# Altium integrated library Analog Devices Data Converters Digital-to-Analog Converters.IntLib: 2231 symbols (part 159 of 181)
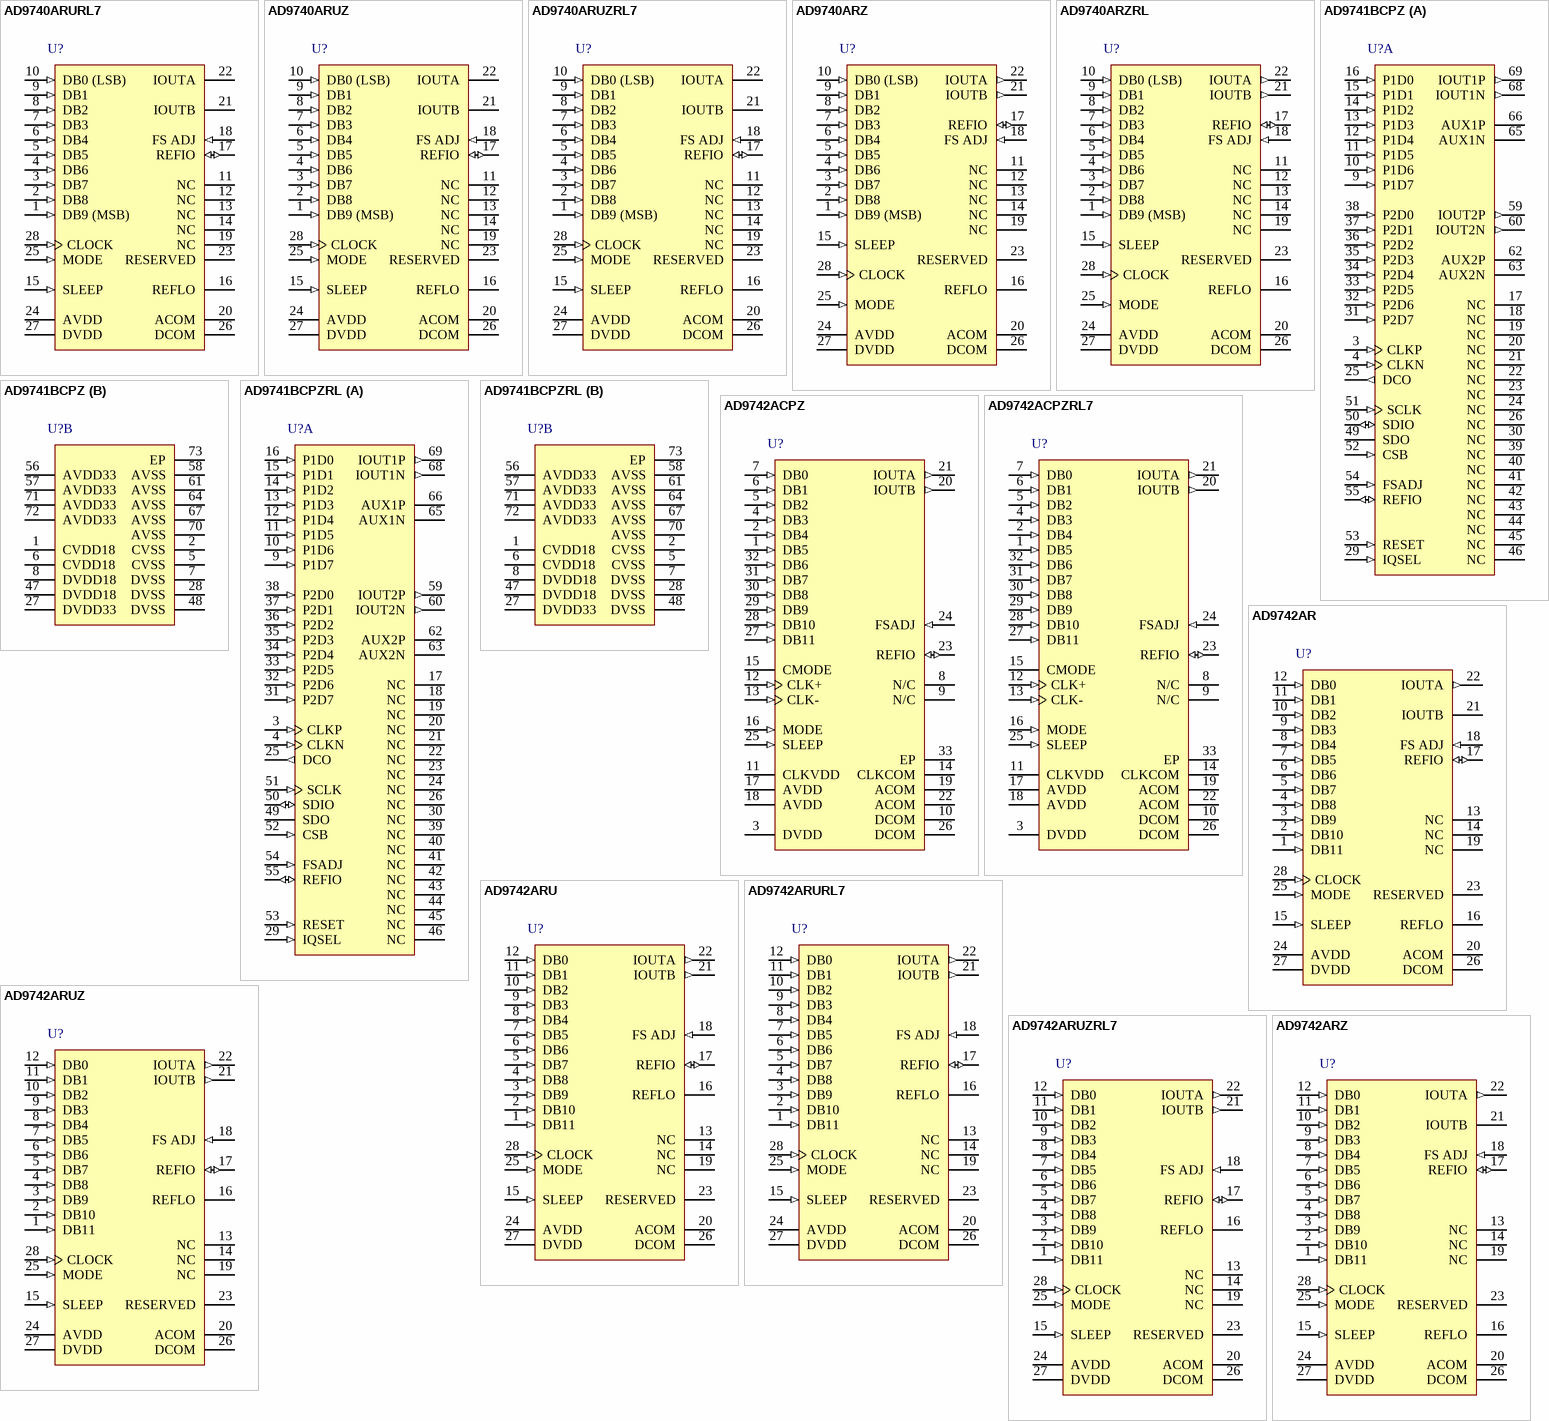
[diagram p272: symbols AD9740ARURL7 to AD9742ARZ]

## AD9742AR
designator U?
Single 12-Bit TxDAC, 210 Msps, -40 to +85 degC, RW-28, Tube; Generic Part Number: AD9742; Manufacturer: Analog Devices; PartNumber: AD9742AR; # DAC Outputs: 1; Max V+: 3.6V; Op Pwr Diss: 145mW; Resolution (Bits): 12; Settling Time: 11ns; Single Supply: No; DatasheetVersion: Rev.B; PackageVersion: 060706-A; PackageReference: RW-28; PackageDescription: 28-Lead Standard Small Outline Package [SOIC_W]; Supplier 1: Digi-Key; Supplier Part Number 1: AD9742AR-ND; Supplier 2: Mouser; Supplier Part Number 2: 584-AD9742AR; Packing: Tube; RoHS: N; Mounting Technology: Surface Mount; Code_JEDEC: MS-013-AE; ComponentLink1Description: Manufacturer URL; ComponentLink1URL: http://www.analog.com/en/index.html; ComponentLink2Description: Datasheet; ComponentLink2URL: http://www.analog.com/static/imported-files/data_sheets/AD9742.pdf; ComponentLink3Description: Product URL; ComponentLink3URL: http://www.analog.com/en/digital-to-analog-converters/da-converters/ad9742/products/product.html
footprint RW-28_N (SOIC, 28-Leads, Body 17.9x7.5mm, Pitch 1.27mm, IPC Medium Density)
footprint RW-28_L (SOIC, 28-Leads, Body 17.9x7.5mm, Pitch 1.27mm, IPC High Density)
footprint RW-28_M (SOIC, 28-Leads, Body 17.9x7.5mm, Pitch 1.27mm, IPC Low Density)
pins: 1 DB11 (in) "Most Significant Data Bit (MSB).", 2 DB10 (in) "Data Bit 10", 3 DB9 (in) "Data Bit 9", 4 DB8 (in) "Data Bit 8", 5 DB7 (in) "Data Bit 7", 6 DB6 (in) "Data Bit 6", 7 DB5 (in) "Data Bit 5", 8 DB4 (in) "Data Bit 4", 9 DB3 (in) "Data Bit 3", 10 DB2 (in) "Data Bit 2", 11 DB1 (in) "Data Bit 1", 12 DB0 (in) "Least Significant Data Bit (LSB).", 13 NC "No Internal Connection.", 14 NC "No Internal Connection.", 15 SLEEP (in) "Power-Down Control Input. Active high. Contains active pull-down circuit; it may be left unterminated if not used.", 16 REFLO "Reference Ground when Internal 1.2 V Reference Used. Connect to AVDD to disable internal reference.", 17 REFIO (io) "Reference Input/Output. Serves as reference input when internal reference disabled (i.e., tie REFLO to AVDD). Serves as 1.2 V reference output when internal reference activated (i.e., tie REFLO to ACOM). Requires 0.1 uF (See Datasheet)", 18 FS ADJ (in) "Full-Scale Current Output Adjust.", 19 NC "No Internal Connection.", 20 ACOM (power) "Analog Common.", 21 IOUTB "Complementary DAC Current Output. Full-scale current when all data bits are 0s.", 22 IOUTA (out) "DAC Current Output. Full-scale current when all data bits are 1s.", 23 RESERVED "Reserved. Do not connect to common or supply.", 24 AVDD (power) "Analog Supply Voltage (3.3 V).", 25 MODE (in) "Selects Input Data Format. Connect to DCOM for straight binary, DVDD for twos complement.", 26 DCOM (power) "Digital Common.", 27 DVDD (power) "Digital Supply Voltage (3.3 V).", 28 CLOCK (in) "Clock Input. Data latched on positive edge of clock."

## AD9742ARU
designator U?
Single 12-Bit TxDAC, 210 Msps, -40 to +85 degC, RU-28, Tube; Generic Part Number: AD9742; Manufacturer: Analog Devices; PartNumber: AD9742ARU; # DAC Outputs: 1; Max V+: 3.6V; Op Pwr Diss: 145mW; Resolution (Bits): 12; Settling Time: 11ns; Single Supply: NO; DatasheetVersion: Rev.B; PackageVersion: 2005; PackageReference: RU-28; PackageDescription: 28-Lead Thin Shrink Small Outline Package [TSSOP]; Supplier 1: Digi-Key; Supplier Part Number 1: AD9742ARU-ND; Supplier 2: Mouser; Supplier Part Number 2: 584-AD9742ARU; Packing: Tube; RoHS: N; Mounting Technology: Surface Mount; Code_JEDEC: MO-153-AE; ComponentLink1Description: Manufacturer URL; ComponentLink1URL: http://www.analog.com/en/index.html; ComponentLink2Description: Datasheet; ComponentLink2URL: http://www.analog.com/static/imported-files/data_sheets/AD9742.pdf; ComponentLink3Description: Package Specification; ComponentLink3URL: http://www.analog.com/static/imported-files/packages/249854663RU_28.pdf; ComponentLink4Description: Product URL; ComponentLink4URL: http://www.analog.com/en/digital-to-analog-converters/da-converters/ad9742/products/product.html
footprint RU-28_N (TSOP, 28-Leads, Body 9.7x4.4mm, Pitch 0.65mm, IPC Medium Density)
footprint RU-28_L (TSOP, 28-Leads, Body 9.7x4.4mm, Pitch 0.65mm, IPC High Density)
footprint RU-28_M (TSOP, 28-Leads, Body 9.7x4.4mm, Pitch 0.65mm, IPC Low Density)
pins: 1 DB11 (in) "Most Significant Data Bit (MSB).", 2 DB10 (in) "Data Bit 10", 3 DB9 (in) "Data Bit 9", 4 DB8 (in) "Data Bit 8", 5 DB7 (in) "Data Bit 7", 6 DB6 (in) "Data Bit 6", 7 DB5 (in) "Data Bit 5", 8 DB4 (in) "Data Bit 4", 9 DB3 (in) "Data Bit 3", 10 DB2 (in) "Data Bit 2", 11 DB1 (in) "Data Bit 1", 12 DB0 (in) "Least Significant Data Bit (LSB).", 13 NC "No Internal Connection.", 14 NC "No Internal Connection.", 15 SLEEP (in) "Power-Down Control Input. Active high. Contains active pull-down circuit; it may be left unterminated if not used.", 16 REFLO "Reference Ground when Internal 1.2 V Reference Used. Connect to AVDD to disable internal reference.", 17 REFIO (io) "Reference Input/Output. Serves as reference input when internal reference disabled (i.e., tie REFLO to AVDD). Serves as 1.2 V reference output when internal reference activated (i.e., tie REFLO to ACOM). Requires 0.1 uF (See Datasheet)", 18 FS ADJ (in) "Full-Scale Current Output Adjust.", 19 NC "No Internal Connection.", 20 ACOM (power) "Analog Common.", 21 IOUTB (out) "Complementary DAC Current Output. Full-scale current when all data bits are 0s.", 22 IOUTA (out) "DAC Current Output. Full-scale current when all data bits are 1s.", 23 RESERVED "Reserved. Do not connect to common or supply.", 24 AVDD (power) "Analog Supply Voltage (3.3 V).", 25 MODE (in) "Selects Input Data Format. Connect to DCOM for straight binary, DVDD for twos complement.", 26 DCOM (power) "Digital Common.", 27 DVDD (power) "Digital Supply Voltage (3.3 V).", 28 CLOCK (in) "Clock Input. Data latched on positive edge of clock."

## AD9742ARURL7
designator U?
Single 12-Bit TxDAC, 210 Msps, -40 to +85 degC, RU-28, Reel; Generic Part Number: AD9742; Manufacturer: Analog Devices; PartNumber: AD9742ARURL7; # DAC Outputs: 1; Max V+: 3.6V; Op Pwr Diss: 145mW; Resolution (Bits): 12; Settling Time: 11ns; Single Supply: NO; DatasheetVersion: Rev.B; PackageVersion: 2005; PackageReference: RU-28; PackageDescription: 28-Lead Thin Shrink Small Outline Package [TSSOP]; Supplier 1: Digi-Key; Supplier Part Number 1: AD9742ARURL7-ND; Supplier 2: Mouser; Supplier Part Number 2: 584-AD9742ARUR7; Packing: Reel; RoHS: N; Mounting Technology: Surface Mount; Code_JEDEC: MO-153-AE; ComponentLink1Description: Manufacturer URL; ComponentLink1URL: http://www.analog.com/en/index.html; ComponentLink2Description: Datasheet; ComponentLink2URL: http://www.analog.com/static/imported-files/data_sheets/AD9742.pdf; ComponentLink3Description: Package Specification; ComponentLink3URL: http://www.analog.com/static/imported-files/packages/249854663RU_28.pdf; ComponentLink4Description: Product URL; ComponentLink4URL: http://www.analog.com/en/digital-to-analog-converters/da-converters/ad9742/products/product.html
footprint RU-28_N (TSOP, 28-Leads, Body 9.7x4.4mm, Pitch 0.65mm, IPC Medium Density)
footprint RU-28_L (TSOP, 28-Leads, Body 9.7x4.4mm, Pitch 0.65mm, IPC High Density)
footprint RU-28_M (TSOP, 28-Leads, Body 9.7x4.4mm, Pitch 0.65mm, IPC Low Density)
pins: 1 DB11 (in) "Most Significant Data Bit (MSB).", 2 DB10 (in) "Data Bit 10", 3 DB9 (in) "Data Bit 9", 4 DB8 (in) "Data Bit 8", 5 DB7 (in) "Data Bit 7", 6 DB6 (in) "Data Bit 6", 7 DB5 (in) "Data Bit 5", 8 DB4 (in) "Data Bit 4", 9 DB3 (in) "Data Bit 3", 10 DB2 (in) "Data Bit 2", 11 DB1 (in) "Data Bit 1", 12 DB0 (in) "Least Significant Data Bit (LSB).", 13 NC "No Internal Connection.", 14 NC "No Internal Connection.", 15 SLEEP (in) "Power-Down Control Input. Active high. Contains active pull-down circuit; it may be left unterminated if not used.", 16 REFLO "Reference Ground when Internal 1.2 V Reference Used. Connect to AVDD to disable internal reference.", 17 REFIO (io) "Reference Input/Output. Serves as reference input when internal reference disabled (i.e., tie REFLO to AVDD). Serves as 1.2 V reference output when internal reference activated (i.e., tie REFLO to ACOM). Requires 0.1 uF (See Datasheet)", 18 FS ADJ (in) "Full-Scale Current Output Adjust.", 19 NC "No Internal Connection.", 20 ACOM (power) "Analog Common.", 21 IOUTB (out) "Complementary DAC Current Output. Full-scale current when all data bits are 0s.", 22 IOUTA (out) "DAC Current Output. Full-scale current when all data bits are 1s.", 23 RESERVED "Reserved. Do not connect to common or supply.", 24 AVDD (power) "Analog Supply Voltage (3.3 V).", 25 MODE (in) "Selects Input Data Format. Connect to DCOM for straight binary, DVDD for twos complement.", 26 DCOM (power) "Digital Common.", 27 DVDD (power) "Digital Supply Voltage (3.3 V).", 28 CLOCK (in) "Clock Input. Data latched on positive edge of clock."

## AD9742ARUZ
designator U?
Single 12-Bit TxDAC, 210 Msps, -40 to +85 degC, RU-28, Pb-Free, Tube; Generic Part Number: AD9742; Manufacturer: Analog Devices; PartNumber: AD9742ARUZ; # DAC Outputs: 1; Max V+: 3.6V; Op Pwr Diss: 145mW; Resolution (Bits): 12; Settling Time: 11ns; Single Supply: NO; DatasheetVersion: Rev.B; PackageVersion: 2005; PackageReference: RU-28; PackageDescription: 28-Lead Thin Shrink Small Outline Package [TSSOP]; Supplier 1: Digi-Key; Supplier Part Number 1: AD9742ARUZ-ND; Supplier 2: Farnell; Supplier Part Number 2: 2305699; Supplier 3: Newark; Supplier Part Number 3: 59K7343; Supplier 4: Mouser; Supplier Part Number 4: 584-AD9742ARUZ; Packing: Tube; RoHS: Y; Mounting Technology: Surface Mount; Code_JEDEC: MO-153-AE; ComponentLink1Description: Manufacturer URL; ComponentLink1URL: http://www.analog.com/en/index.html; ComponentLink2Description: Datasheet; ComponentLink2URL: http://www.analog.com/static/imported-files/data_sheets/AD9742.pdf; ComponentLink3Description: Package Specification; ComponentLink3URL: http://www.analog.com/static/imported-files/packages/249854663RU_28.pdf; ComponentLink4Description: Product URL; ComponentLink4URL: http://www.analog.com/en/digital-to-analog-converters/da-converters/ad9742/products/product.html
footprint RU-28_N (TSOP, 28-Leads, Body 9.7x4.4mm, Pitch 0.65mm, IPC Medium Density)
footprint RU-28_L (TSOP, 28-Leads, Body 9.7x4.4mm, Pitch 0.65mm, IPC High Density)
footprint RU-28_M (TSOP, 28-Leads, Body 9.7x4.4mm, Pitch 0.65mm, IPC Low Density)
pins: 1 DB11 (in) "Most Significant Data Bit (MSB).", 2 DB10 (in) "Data Bit 10", 3 DB9 (in) "Data Bit 9", 4 DB8 (in) "Data Bit 8", 5 DB7 (in) "Data Bit 7", 6 DB6 (in) "Data Bit 6", 7 DB5 (in) "Data Bit 5", 8 DB4 (in) "Data Bit 4", 9 DB3 (in) "Data Bit 3", 10 DB2 (in) "Data Bit 2", 11 DB1 (in) "Data Bit 1", 12 DB0 (in) "Least Significant Data Bit (LSB).", 13 NC "No Internal Connection.", 14 NC "No Internal Connection.", 15 SLEEP (in) "Power-Down Control Input. Active high. Contains active pull-down circuit; it may be left unterminated if not used.", 16 REFLO "Reference Ground when Internal 1.2 V Reference Used. Connect to AVDD to disable internal reference.", 17 REFIO (io) "Reference Input/Output. Serves as reference input when internal reference disabled (i.e., tie REFLO to AVDD). Serves as 1.2 V reference output when internal reference activated (i.e., tie REFLO to ACOM). Requires 0.1 uF (See Datasheet)", 18 FS ADJ (in) "Full-Scale Current Output Adjust.", 19 NC "No Internal Connection.", 20 ACOM (power) "Analog Common.", 21 IOUTB (out) "Complementary DAC Current Output. Full-scale current when all data bits are 0s.", 22 IOUTA (out) "DAC Current Output. Full-scale current when all data bits are 1s.", 23 RESERVED "Reserved. Do not connect to common or supply.", 24 AVDD (power) "Analog Supply Voltage (3.3 V).", 25 MODE (in) "Selects Input Data Format. Connect to DCOM for straight binary, DVDD for twos complement.", 26 DCOM (power) "Digital Common.", 27 DVDD (power) "Digital Supply Voltage (3.3 V).", 28 CLOCK (in) "Clock Input. Data latched on positive edge of clock."

## AD9742ARUZRL7
designator U?
Single 12-Bit TxDAC, 210 Msps, -40 to +85 degC, RU-28, Pb-Free, Reel; Generic Part Number: AD9742; Manufacturer: Analog Devices; PartNumber: AD9742ARUZRL7; # DAC Outputs: 1; Max V+: 3.6V; Op Pwr Diss: 145mW; Resolution (Bits): 12; Settling Time: 11ns; Single Supply: NO; DatasheetVersion: Rev.B; PackageVersion: 2005; PackageReference: RU-28; PackageDescription: 28-Lead Thin Shrink Small Outline Package [TSSOP]; Supplier 1: Digi-Key; Supplier Part Number 1: AD9742ARUZRL7-ND; Supplier 2: Mouser; Supplier Part Number 2: 584-AD9742ARUZR7; Packing: Reel; RoHS: Y; Mounting Technology: Surface Mount; Code_JEDEC: MO-153-AE; ComponentLink1Description: Manufacturer URL; ComponentLink1URL: http://www.analog.com/en/index.html; ComponentLink2Description: Datasheet; ComponentLink2URL: http://www.analog.com/static/imported-files/data_sheets/AD9742.pdf; ComponentLink3Description: Package Specification; ComponentLink3URL: http://www.analog.com/static/imported-files/packages/249854663RU_28.pdf; ComponentLink4Description: Product URL; ComponentLink4URL: http://www.analog.com/en/digital-to-analog-converters/da-converters/ad9742/products/product.html
footprint RU-28_N (TSOP, 28-Leads, Body 9.7x4.4mm, Pitch 0.65mm, IPC Medium Density)
footprint RU-28_L (TSOP, 28-Leads, Body 9.7x4.4mm, Pitch 0.65mm, IPC High Density)
footprint RU-28_M (TSOP, 28-Leads, Body 9.7x4.4mm, Pitch 0.65mm, IPC Low Density)
pins: 1 DB11 (in) "Most Significant Data Bit (MSB).", 2 DB10 (in) "Data Bit 10", 3 DB9 (in) "Data Bit 9", 4 DB8 (in) "Data Bit 8", 5 DB7 (in) "Data Bit 7", 6 DB6 (in) "Data Bit 6", 7 DB5 (in) "Data Bit 5", 8 DB4 (in) "Data Bit 4", 9 DB3 (in) "Data Bit 3", 10 DB2 (in) "Data Bit 2", 11 DB1 (in) "Data Bit 1", 12 DB0 (in) "Least Significant Data Bit (LSB).", 13 NC "No Internal Connection.", 14 NC "No Internal Connection.", 15 SLEEP (in) "Power-Down Control Input. Active high. Contains active pull-down circuit; it may be left unterminated if not used.", 16 REFLO "Reference Ground when Internal 1.2 V Reference Used. Connect to AVDD to disable internal reference.", 17 REFIO (io) "Reference Input/Output. Serves as reference input when internal reference disabled (i.e., tie REFLO to AVDD). Serves as 1.2 V reference output when internal reference activated (i.e., tie REFLO to ACOM). Requires 0.1 uF (See Datasheet)", 18 FS ADJ (in) "Full-Scale Current Output Adjust.", 19 NC "No Internal Connection.", 20 ACOM (power) "Analog Common.", 21 IOUTB (out) "Complementary DAC Current Output. Full-scale current when all data bits are 0s.", 22 IOUTA (out) "DAC Current Output. Full-scale current when all data bits are 1s.", 23 RESERVED "Reserved. Do not connect to common or supply.", 24 AVDD (power) "Analog Supply Voltage (3.3 V).", 25 MODE (in) "Selects Input Data Format. Connect to DCOM for straight binary, DVDD for twos complement.", 26 DCOM (power) "Digital Common.", 27 DVDD (power) "Digital Supply Voltage (3.3 V).", 28 CLOCK (in) "Clock Input. Data latched on positive edge of clock."

## AD9742ARZ
designator U?
Single 12-Bit TxDAC, 210 Msps, -40 to +85 degC, RW-28, Pb-Free, Tube; Generic Part Number: AD9742; Manufacturer: Analog Devices; PartNumber: AD9742ARZ; # DAC Outputs: 1; Max V+: 3.6V; Op Pwr Diss: 145mW; Resolution (Bits): 12; Settling Time: 11ns; Single Supply: NO; DatasheetVersion: Rev.B; PackageVersion: 060706-A; PackageReference: RW-28; PackageDescription: 28-Lead Standard Small Outline Package [SOIC_W]; Supplier 1: Digi-Key; Supplier Part Number 1: AD9742ARZ-ND; Supplier 2: Mouser; Supplier Part Number 2: 584-AD9742ARZ; Packing: Tube; RoHS: Y; Mounting Technology: Surface Mount; Code_JEDEC: MS-013-AE; ComponentLink1Description: Manufacturer URL; ComponentLink1URL: http://www.analog.com/en/index.html; ComponentLink2Description: Datasheet; ComponentLink2URL: http://www.analog.com/static/imported-files/data_sheets/AD9742.pdf; ComponentLink3Description: Product URL; ComponentLink3URL: http://www.analog.com/en/digital-to-analog-converters/da-converters/ad9742/products/product.html
footprint RW-28_N (SOIC, 28-Leads, Body 17.9x7.5mm, Pitch 1.27mm, IPC Medium Density)
footprint RW-28_L (SOIC, 28-Leads, Body 17.9x7.5mm, Pitch 1.27mm, IPC High Density)
footprint RW-28_M (SOIC, 28-Leads, Body 17.9x7.5mm, Pitch 1.27mm, IPC Low Density)
pins: 1 DB11 (in) "Most Significant Data Bit (MSB).", 2 DB10 (in) "Data Bit 10", 3 DB9 (in) "Data Bit 9", 4 DB8 (in) "Data Bit 8", 5 DB7 (in) "Data Bit 7", 6 DB6 (in) "Data Bit 6", 7 DB5 (in) "Data Bit 5", 8 DB4 (in) "Data Bit 4", 9 DB3 (in) "Data Bit 3", 10 DB2 (in) "Data Bit 2", 11 DB1 (in) "Data Bit 1", 12 DB0 (in) "Least Significant Data Bit (LSB).", 13 NC "No Internal Connection.", 14 NC "No Internal Connection.", 15 SLEEP (in) "Power-Down Control Input. Active high. Contains active pull-down circuit; it may be left unterminated if not used.", 16 REFLO "Reference Ground when Internal 1.2 V Reference Used. Connect to AVDD to disable internal reference.", 17 REFIO (io) "Reference Input/Output. Serves as reference input when internal reference disabled (i.e., tie REFLO to AVDD). Serves as 1.2 V reference output when internal reference activated (i.e., tie REFLO to ACOM). Requires 0.1 uF (See Datasheet)", 18 FS ADJ (in) "Full-Scale Current Output Adjust.", 19 NC "No Internal Connection.", 20 ACOM (power) "Analog Common.", 21 IOUTB "Complementary DAC Current Output. Full-scale current when all data bits are 0s.", 22 IOUTA (out) "DAC Current Output. Full-scale current when all data bits are 1s.", 23 RESERVED "Reserved. Do not connect to common or supply.", 24 AVDD (power) "Analog Supply Voltage (3.3 V).", 25 MODE (in) "Selects Input Data Format. Connect to DCOM for straight binary, DVDD for twos complement.", 26 DCOM (power) "Digital Common.", 27 DVDD (power) "Digital Supply Voltage (3.3 V).", 28 CLOCK (in) "Clock Input. Data latched on positive edge of clock."

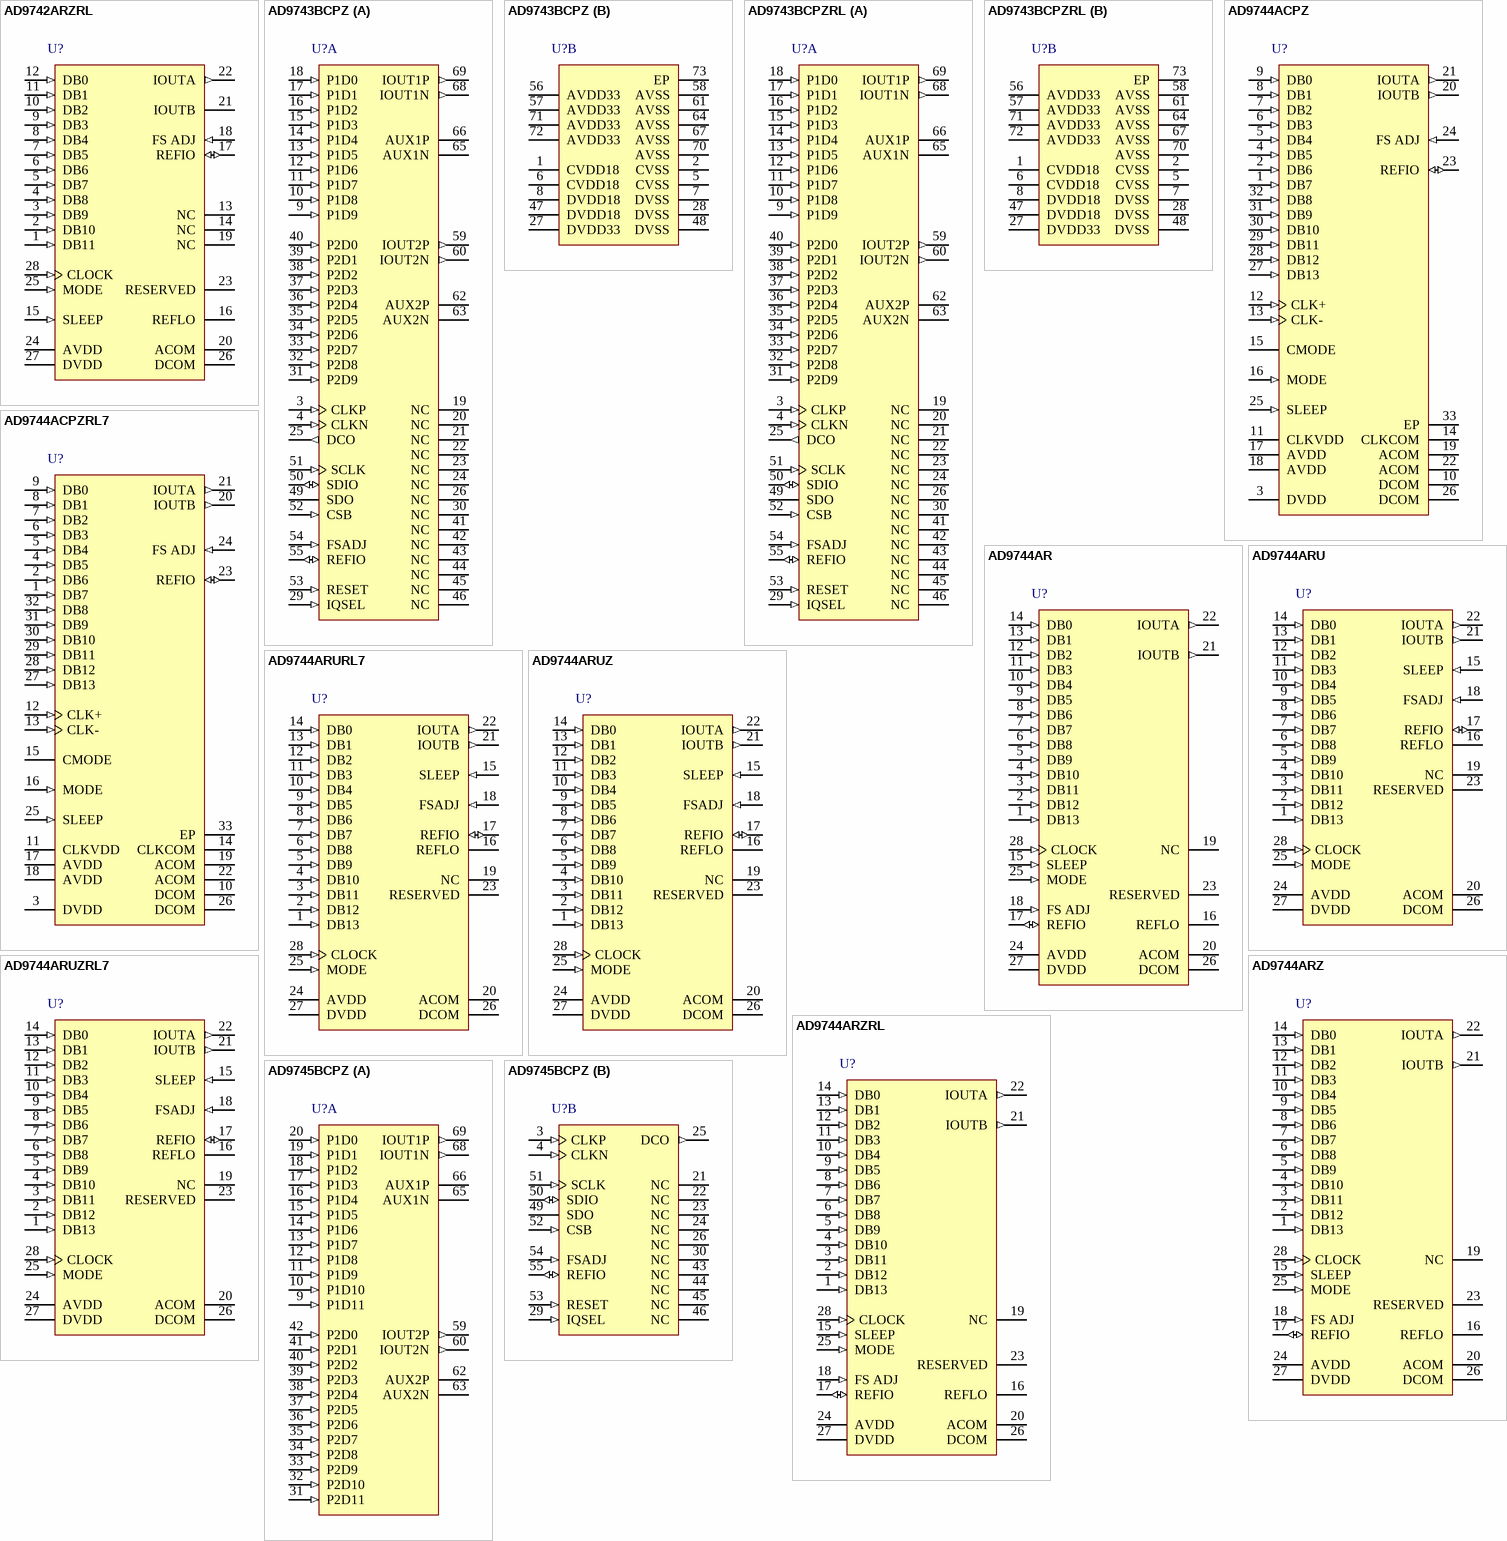
[diagram p95: symbols AD9742ARZRL to AD9745BCPZ]

## AD9742ARZRL
designator U?
Single 12-Bit TxDAC, 210 Msps, -40 to +85 degC, RW-28, Pb-Free, Reel; Generic Part Number: AD9742; Manufacturer: Analog Devices; PartNumber: AD9742ARZRL; # DAC Outputs: 1; Max V+: 3.6V; Op Pwr Diss: 145mW; Resolution (Bits): 12; Settling Time: 11ns; Single Supply: NO; DatasheetVersion: Rev.B; PackageVersion: 060706-A; PackageReference: RW-28; PackageDescription: 28-Lead Standard Small Outline Package [SOIC_W]; Supplier 1: Digi-Key; Supplier Part Number 1: AD9742ARZRL-ND; Supplier 2: Mouser; Supplier Part Number 2: 584-AD9742ARZR; Packing: Reel; RoHS: Y; Mounting Technology: Surface Mount; Code_JEDEC: MS-013-AE; ComponentLink1Description: Manufacturer URL; ComponentLink1URL: http://www.analog.com/en/index.html; ComponentLink2Description: Datasheet; ComponentLink2URL: http://www.analog.com/static/imported-files/data_sheets/AD9742.pdf; ComponentLink3Description: Product URL; ComponentLink3URL: http://www.analog.com/en/digital-to-analog-converters/da-converters/ad9742/products/product.html
footprint RW-28_N (SOIC, 28-Leads, Body 17.9x7.5mm, Pitch 1.27mm, IPC Medium Density)
footprint RW-28_L (SOIC, 28-Leads, Body 17.9x7.5mm, Pitch 1.27mm, IPC High Density)
footprint RW-28_M (SOIC, 28-Leads, Body 17.9x7.5mm, Pitch 1.27mm, IPC Low Density)
pins: 1 DB11 (in) "Most Significant Data Bit (MSB).", 2 DB10 (in) "Data Bit 10", 3 DB9 (in) "Data Bit 9", 4 DB8 (in) "Data Bit 8", 5 DB7 (in) "Data Bit 7", 6 DB6 (in) "Data Bit 6", 7 DB5 (in) "Data Bit 5", 8 DB4 (in) "Data Bit 4", 9 DB3 (in) "Data Bit 3", 10 DB2 (in) "Data Bit 2", 11 DB1 (in) "Data Bit 1", 12 DB0 (in) "Least Significant Data Bit (LSB).", 13 NC "No Internal Connection.", 14 NC "No Internal Connection.", 15 SLEEP (in) "Power-Down Control Input. Active high. Contains active pull-down circuit; it may be left unterminated if not used.", 16 REFLO "Reference Ground when Internal 1.2 V Reference Used. Connect to AVDD to disable internal reference.", 17 REFIO (io) "Reference Input/Output. Serves as reference input when internal reference disabled (i.e., tie REFLO to AVDD). Serves as 1.2 V reference output when internal reference activated (i.e., tie REFLO to ACOM). Requires 0.1 uF (See Datasheet)", 18 FS ADJ (in) "Full-Scale Current Output Adjust.", 19 NC "No Internal Connection.", 20 ACOM (power) "Analog Common.", 21 IOUTB "Complementary DAC Current Output. Full-scale current when all data bits are 0s.", 22 IOUTA (out) "DAC Current Output. Full-scale current when all data bits are 1s.", 23 RESERVED "Reserved. Do not connect to common or supply.", 24 AVDD (power) "Analog Supply Voltage (3.3 V).", 25 MODE (in) "Selects Input Data Format. Connect to DCOM for straight binary, DVDD for twos complement.", 26 DCOM (power) "Digital Common.", 27 DVDD (power) "Digital Supply Voltage (3.3 V).", 28 CLOCK (in) "Clock Input. Data latched on positive edge of clock."

## AD9743BCPZ
designator U?
Dual 10-Bit Digital-to-Analog Converter, 250 Msps, -40 to +85 degC, CP-72-1, Pb-Free, Tray; Generic Part Number: AD9743; Manufacturer: Analog Devices; PartNumber: AD9743BCPZ; # DAC Outputs: 2; Max V+: 3.47V; Op Pwr Diss: 345mW; Resolution (Bits): 10; Single Supply: No; DatasheetVersion: Rev.0; PackageVersion: 06-07-2012-A; PackageReference: CP-72-1; PackageDescription: 72-Lead Lead Frame Chip Scale Package [LFCSP_VQ] 10 x 10 mm Body, Very Thin Quad; Supplier 1: Digi-Key; Supplier Part Number 1: AD9743BCPZ-ND; Supplier 2: Farnell; Supplier Part Number 2: 1438932; Supplier 3: Mouser; Supplier Part Number 3: 584-AD9743BCPZ; Packing: Tray; RoHS: Y; Mounting Technology: Surface Mount; Code_JEDEC: MO-220-VNND-4; ComponentLink1Description: Manufacturer URL; ComponentLink1URL: http://www.analog.com/en/index.html; ComponentLink2Description: Datasheet; ComponentLink2URL: http://www.analog.com/static/imported-files/data_sheets/AD9741_9743_9745_9746_9747.pdf; ComponentLink3Description: Package Specification; ComponentLink3URL: http://www.analog.com/static/imported-files/packages/CP_72_1.pdf; ComponentLink4Description: Product URL; ComponentLink4URL: http://www.analog.com/en/digital-to-analog-converters/da-converters/ad9743/products/product.html
footprint CP-72-1_N (QFN, 72-Leads, Body 10x10mm, Pitch 0.5mm, Thermal Pad 4.7x4.7mm, IPC Medium Density)
footprint CP-72-1_L (QFN, 72-Leads, Body 10x10mm, Pitch 0.5mm, Thermal Pad 4.7x4.7mm, IPC High Density)
footprint CP-72-1_M (QFN, 72-Leads, Body 10x10mm, Pitch 0.5mm, Thermal Pad 4.7x4.7mm, IPC Low Density)
part A pins: 3 CLKP (in) "Differential DAC Clock Input.", 4 CLKN (in) "Complementary Differential DAC Clock Input.", 9 P1D9 (in) "Port 1 Data Bit Input.", 10 P1D8 (in) "Port 1 Data Bit Input.", 11 P1D7 (in) "Port 1 Data Bit Input.", 12 P1D6 (in) "Port 1 Data Bit Input.", 13 P1D5 (in) "Port 1 Data Bit Input.", 14 P1D4 (in) "Port 1 Data Bit Input.", 15 P1D3 (in) "Port 1 Data Bit Input.", 16 P1D2 (in) "Port 1 Data Bit Input.", 17 P1D1 (in) "Port 1 Data Bit Input.", 18 P1D0 (in) "Port 1 Data Bit Input.", 19 NC "No Connect.", 20 NC "No Connect.", 21 NC "No Connect.", 22 NC "No Connect.", 23 NC "No Connect.", 24 NC "No Connect.", 25 DCO (out) "Data Clock Output. Use to clock data source.", 26 NC "No Connect.", 29 IQSEL (in) "I/Q Framing Signal for Single-Port Mode Operation.", 30 NC "No Connect.", 31 P2D9 (in) "Port 2 Data Bit Input.", 32 P2D8 (in) "Port 2 Data Bit Input.", 33 P2D7 (in) "Port 2 Data Bit Input.", 34 P2D6 (in) "Port 2 Data Bit Input.", 35 P2D5 (in) "Port 2 Data Bit Input.", 36 P2D4 (in) "Port 2 Data Bit Input.", 37 P2D3 (in) "Port 2 Data Bit Input.", 38 P2D2 (in) "Port 2 Data Bit Input.", 39 P2D1 (in) "Port 2 Data Bit Input.", 40 P2D0 (in) "Port 2 Data Bit Input.", 41 NC "No Connect.", 42 NC "No Connect.", 43 NC "No Connect.", 44 NC "No Connect.", 45 NC "No Connect.", 46 NC "No Connect.", 49 SDO (hiz) "Serial Peripheral Interface Data Output.", 50 SDIO (io) "Serial Peripheral Interface Data Input and Optional Data Output.", 51 SCLK (in) "Serial Peripheral Interface Clock Input.", 52 CSB (in) "Serial Peripheral Interface Chip Select Input. Active low.", 53 RESET (in) "Hardware Reset. Active high.", 54 FSADJ (in) "Full-Scale Current Output Adjust. Connect a 10 kohm resistor to AVSS.", 55 REFIO (io) "Reference Input/Output. Connect a 0.1 uF capacitor to AVSS.", 59 IOUT2P (out) "DAC2 Current Output. Sources full-scale current when input data bits are all 1.", 60 IOUT2N (out) "Complementary DAC2 Current Output. Sources full-scale current when data bits are all 0.", 62 AUX2P (hiz) "Auxiliary DAC2 Default Current Output Pin.", 63 AUX2N (hiz) "Auxiliary DAC2 Optional Output Pin. Enable through SPI.", 65 AUX1N (hiz) "Auxiliary DAC1 Optional Output Pin. Enable through SPI.", 66 AUX1P (hiz) "Auxiliary DAC1 Default Current Output Pin.", 68 IOUT1N (out) "Complementary DAC1 Current Output. Sources full-scale current when data bits are all 0.", 69 IOUT1P (out) "DAC1 Current Output. Sources full-scale current when data bits are all 1."
part B pins: 1 CVDD18 (power) "Clock Supply Voltage (1.8 V).", 2 CVSS (power) "Clock Supply Common (0 V).", 5 CVSS (power) "Clock Supply Common (0 V).", 6 CVDD18 (power) "Clock Supply Voltage (1.8 V).", 7 DVSS (power) "Digital Supply Common (0 V).", 8 DVDD18 (power) "Digital Core Supply Voltage (1.8 V).", 27 DVDD33 (power) "Digital I/O Supply Voltage (3.3 V).", 28 DVSS (power) "Digital Supply Common (0 V).", 47 DVDD18 (power) "Digital Core Supply Voltage (1.8 V).", 48 DVSS (power) "Digital Supply Common (0 V).", 56 AVDD33 (power) "Analog Supply Voltage (3.3 V).", 57 AVDD33 (power) "Analog Supply Voltage (3.3 V).", 58 AVSS (power) "Analog Supply Common (0 V).", 61 AVSS (power) "Analog Supply Common (0 V).", 64 AVSS (power) "Analog Supply Common (0 V).", 67 AVSS (power) "Analog Supply Common (0 V).", 70 AVSS (power) "Analog Supply Common (0 V).", 71 AVDD33 (power) "Analog Supply Voltage (3.3 V).", 72 AVDD33 (power) "Analog Supply Voltage (3.3 V).", 73 EP (power) "Exposed Thermal Pad. Must be soldered to copper pour on top surface of PCB for mechanical stability and must be electrically tied to low impedance GND plane for low noise performance."

## AD9743BCPZRL
designator U?
Dual 10-Bit Digital-to-Analog Converter, 250 Msps, -40 to +85 degC, CP-72-1, Pb-Free, Reel; Generic Part Number: AD9743; Manufacturer: Analog Devices; PartNumber: AD9743BCPZRL; # DAC Outputs: 2; Max V+: 3.47V; Op Pwr Diss: 345mW; Resolution (Bits): 10; Single Supply: No; DatasheetVersion: Rev.0; PackageVersion: 06-07-2012-A; PackageReference: CP-72-1; PackageDescription: 72-Lead Lead Frame Chip Scale Package [LFCSP_VQ] 10 x 10 mm Body, Very Thin Quad; Supplier 1: Digi-Key; Supplier Part Number 1: AD9743BCPZRL-ND; Supplier 2: Mouser; Supplier Part Number 2: 584-AD9743BCPZR; Packing: Reel; RoHS: Y; Mounting Technology: Surface Mount; Code_JEDEC: MO-220-VNND-4; ComponentLink1Description: Manufacturer URL; ComponentLink1URL: http://www.analog.com/en/index.html; ComponentLink2Description: Datasheet; ComponentLink2URL: http://www.analog.com/static/imported-files/data_sheets/AD9741_9743_9745_9746_9747.pdf; ComponentLink3Description: Package Specification; ComponentLink3URL: http://www.analog.com/static/imported-files/packages/CP_72_1.pdf; ComponentLink4Description: Product URL; ComponentLink4URL: http://www.analog.com/en/digital-to-analog-converters/da-converters/ad9743/products/product.html
footprint CP-72-1_N (QFN, 72-Leads, Body 10x10mm, Pitch 0.5mm, Thermal Pad 4.7x4.7mm, IPC Medium Density)
footprint CP-72-1_L (QFN, 72-Leads, Body 10x10mm, Pitch 0.5mm, Thermal Pad 4.7x4.7mm, IPC High Density)
footprint CP-72-1_M (QFN, 72-Leads, Body 10x10mm, Pitch 0.5mm, Thermal Pad 4.7x4.7mm, IPC Low Density)
part A pins: 3 CLKP (in) "Differential DAC Clock Input.", 4 CLKN (in) "Complementary Differential DAC Clock Input.", 9 P1D9 (in) "Port 1 Data Bit Input.", 10 P1D8 (in) "Port 1 Data Bit Input.", 11 P1D7 (in) "Port 1 Data Bit Input.", 12 P1D6 (in) "Port 1 Data Bit Input.", 13 P1D5 (in) "Port 1 Data Bit Input.", 14 P1D4 (in) "Port 1 Data Bit Input.", 15 P1D3 (in) "Port 1 Data Bit Input.", 16 P1D2 (in) "Port 1 Data Bit Input.", 17 P1D1 (in) "Port 1 Data Bit Input.", 18 P1D0 (in) "Port 1 Data Bit Input.", 19 NC "No Connect.", 20 NC "No Connect.", 21 NC "No Connect.", 22 NC "No Connect.", 23 NC "No Connect.", 24 NC "No Connect.", 25 DCO (out) "Data Clock Output. Use to clock data source.", 26 NC "No Connect.", 29 IQSEL (in) "I/Q Framing Signal for Single-Port Mode Operation.", 30 NC "No Connect.", 31 P2D9 (in) "Port 2 Data Bit Input.", 32 P2D8 (in) "Port 2 Data Bit Input.", 33 P2D7 (in) "Port 2 Data Bit Input.", 34 P2D6 (in) "Port 2 Data Bit Input.", 35 P2D5 (in) "Port 2 Data Bit Input.", 36 P2D4 (in) "Port 2 Data Bit Input.", 37 P2D3 (in) "Port 2 Data Bit Input.", 38 P2D2 (in) "Port 2 Data Bit Input.", 39 P2D1 (in) "Port 2 Data Bit Input.", 40 P2D0 (in) "Port 2 Data Bit Input.", 41 NC "No Connect.", 42 NC "No Connect.", 43 NC "No Connect.", 44 NC "No Connect.", 45 NC "No Connect.", 46 NC "No Connect.", 49 SDO (hiz) "Serial Peripheral Interface Data Output.", 50 SDIO (io) "Serial Peripheral Interface Data Input and Optional Data Output.", 51 SCLK (in) "Serial Peripheral Interface Clock Input.", 52 CSB (in) "Serial Peripheral Interface Chip Select Input. Active low.", 53 RESET (in) "Hardware Reset. Active high.", 54 FSADJ (in) "Full-Scale Current Output Adjust. Connect a 10 kohm resistor to AVSS.", 55 REFIO (io) "Reference Input/Output. Connect a 0.1 uF capacitor to AVSS.", 59 IOUT2P (out) "DAC2 Current Output. Sources full-scale current when input data bits are all 1.", 60 IOUT2N (out) "Complementary DAC2 Current Output. Sources full-scale current when data bits are all 0.", 62 AUX2P (hiz) "Auxiliary DAC2 Default Current Output Pin.", 63 AUX2N (hiz) "Auxiliary DAC2 Optional Output Pin. Enable through SPI.", 65 AUX1N (hiz) "Auxiliary DAC1 Optional Output Pin. Enable through SPI.", 66 AUX1P (hiz) "Auxiliary DAC1 Default Current Output Pin.", 68 IOUT1N (out) "Complementary DAC1 Current Output. Sources full-scale current when data bits are all 0.", 69 IOUT1P (out) "DAC1 Current Output. Sources full-scale current when data bits are all 1."
part B pins: 1 CVDD18 (power) "Clock Supply Voltage (1.8 V).", 2 CVSS (power) "Clock Supply Common (0 V).", 5 CVSS (power) "Clock Supply Common (0 V).", 6 CVDD18 (power) "Clock Supply Voltage (1.8 V).", 7 DVSS (power) "Digital Supply Common (0 V).", 8 DVDD18 (power) "Digital Core Supply Voltage (1.8 V).", 27 DVDD33 (power) "Digital I/O Supply Voltage (3.3 V).", 28 DVSS (power) "Digital Supply Common (0 V).", 47 DVDD18 (power) "Digital Core Supply Voltage (1.8 V).", 48 DVSS (power) "Digital Supply Common (0 V).", 56 AVDD33 (power) "Analog Supply Voltage (3.3 V).", 57 AVDD33 (power) "Analog Supply Voltage (3.3 V).", 58 AVSS (power) "Analog Supply Common (0 V).", 61 AVSS (power) "Analog Supply Common (0 V).", 64 AVSS (power) "Analog Supply Common (0 V).", 67 AVSS (power) "Analog Supply Common (0 V).", 70 AVSS (power) "Analog Supply Common (0 V).", 71 AVDD33 (power) "Analog Supply Voltage (3.3 V).", 72 AVDD33 (power) "Analog Supply Voltage (3.3 V).", 73 EP (power) "Exposed Thermal Pad. Must be soldered to copper pour on top surface of PCB for mechanical stability and must be electrically tied to low impedance GND plane for low noise performance."

## AD9744ACPZ
designator U?
Single 14-Bit TxDAC, 210 Msps, -40 to +85 degC, CP-32-3, Pb-Free, Tray; Generic Part Number: AD9744; Manufacturer: Analog Devices; PartNumber: AD9744ACPZ; # DAC Outputs: 1; Max V+: 3.6V; Op Pwr Diss: 145mW; Resolution (Bits): 14; Settling Time: 11ns; Single Supply: Yes; DatasheetVersion: Rev.B; PackageVersion: Jan-2005; PackageReference: CP-32-3; PackageDescription: 32-Lead Lead Frame Chip Scale Package [LFCSP_VQ] 5 x 5 mm Body, Very Thin Quad; Supplier 1: Digi-Key; Supplier Part Number 1: AD9744ACPZ-ND; Supplier 2: Farnell; Supplier Part Number 2: 2305700; Supplier 3: Newark; Supplier Part Number 3: 59K7347; Supplier 4: Mouser; Supplier Part Number 4: 584-AD9744ACPZ; Packing: Tray; RoHS: Y; Mounting Technology: Surface Mount; Code_JEDEC: MO-220-VHHD-2; ComponentLink1Description: Manufacturer URL; ComponentLink1URL: http://www.analog.com/en/index.html; ComponentLink2Description: Datasheet; ComponentLink2URL: http://www.analog.com/static/imported-files/data_sheets/AD9744.pdf; ComponentLink3Description: Package Specification; ComponentLink3URL: http://www.analog.com/static/imported-files/packages/32877413525511988CP_32_3.pdf; ComponentLink4Description: Product URL; ComponentLink4URL: http://www.analog.com/en/digital-to-analog-converters/da-converters/ad9744/products/product.html
footprint CP-32-3_N (QFN, 32-Leads, Body 5x5mm, Pitch 0.5mm, Thermal Pad 3.3x3.3mm, IPC Medium Density)
footprint CP-32-3_L (QFN, 32-Leads, Body 5x5mm, Pitch 0.5mm, Thermal Pad 3.3x3.3mm, IPC High Density)
footprint CP-32-3_M (QFN, 32-Leads, Body 5x5mm, Pitch 0.5mm, Thermal Pad 3.3x3.3mm, IPC Low Density)
pins: 1 DB7 (in) "Data Bit 7", 2 DB6 (in) "Data Bit 6", 3 DVDD (power) "Digital Supply Voltage (3.3 V).", 4 DB5 (in) "Data Bit 5", 5 DB4 (in) "Data Bit 4", 6 DB3 (in) "Data Bit 3", 7 DB2 (in) "Data Bit 2", 8 DB1 (in) "Data Bit 1", 9 DB0 (in) "Least Significant Data Bit (LSB).", 10 DCOM (power) "Digital Common.", 11 CLKVDD (power) "Clock Supply Voltage (3.3 V).", 12 CLK+ (in) "Differential Clock Input.", 13 CLK- (in) "Differential Clock Input.", 14 CLKCOM (power) "Clock Common.", 15 CMODE "Clock Mode Selection. Connect to CLKCOM for single-ended clock receiver (drive CLK+ and float CLK-). Connect to CLKVDD for differential receiver. Float for PECL receiver (terminations on-chip).", 16 MODE (in) "Selects Input Data Format. Connect to DCOM for straight binary, DVDD for twos complement.", 17 AVDD (power) "Analog Supply Voltage (3.3 V).", 18 AVDD (power) "Analog Supply Voltage (3.3 V).", 19 ACOM (power) "Analog Common.", 20 IOUTB (out) "Complementary DAC Current Output. Full-scale current when all data bits are 0s.", 21 IOUTA (out) "DAC Current Output. Full-scale current when all data bits are 1s.", 22 ACOM (power) "Analog Common.", 23 REFIO (io) "Reference Input/Output. Serves as reference input when using external reference. Serves as 1.2 V reference output when using internal reference. Requires 0.1 uF capacitor to ACOM when using internal reference.", 24 FS ADJ (in) "Full-Scale Current Output Adjust.", 25 SLEEP (in) "Power-Down Control Input. Active high. Contains active pull-down circuit; it may be left unterminated if not used.", 26 DCOM (power) "Digital Common.", 27 DB13 (in) "Most Significant Data Bit (MSB).", 28 DB12 (in) "Data Bit 12", 29 DB11 (in) "Data Bit 11", 30 DB10 (in) "Data Bit 10", 31 DB9 (in) "Data Bit 9", 32 DB8 (in) "Data Bit 8", 33 EP "Exposed pad"

## AD9744ACPZRL7
designator U?
Single 14-Bit TxDAC, 210 Msps, -40 to +85 degC, CP-32-3, Pb-Free, Reel; Generic Part Number: AD9744; Manufacturer: Analog Devices; PartNumber: AD9744ACPZRL7; # DAC Outputs: 1; Max V+: 3.6V; Op Pwr Diss: 145mW; Resolution (Bits): 14; Settling Time: 11ns; Single Supply: Yes; DatasheetVersion: Rev.B; PackageVersion: Jan-2005; PackageReference: CP-32-3; PackageDescription: 32-Lead Lead Frame Chip Scale Package [LFCSP_VQ] 5 x 5 mm Body, Very Thin Quad; Supplier 1: Digi-Key; Supplier Part Number 1: AD9744ACPZRL7TR-ND; Supplier 2: Digi-Key; Supplier Part Number 2: AD9744ACPZRL7CT-ND; Supplier 3: Digi-Key; Supplier Part Number 3: AD9744ACPZRL7DKR-ND; Supplier 4: Mouser; Supplier Part Number 4: 584-AD9744ACPZR7; Packing: Reel; RoHS: Y; Mounting Technology: Surface Mount; Code_JEDEC: MO-220-VHHD-2; ComponentLink1Description: Manufacturer URL; ComponentLink1URL: http://www.analog.com/en/index.html; ComponentLink2Description: Datasheet; ComponentLink2URL: http://www.analog.com/static/imported-files/data_sheets/AD9744.pdf; ComponentLink3Description: Package Specification; ComponentLink3URL: http://www.analog.com/static/imported-files/packages/32877413525511988CP_32_3.pdf; ComponentLink4Description: Product URL; ComponentLink4URL: http://www.analog.com/en/digital-to-analog-converters/da-converters/ad9744/products/product.html
footprint CP-32-3_N (QFN, 32-Leads, Body 5x5mm, Pitch 0.5mm, Thermal Pad 3.3x3.3mm, IPC Medium Density)
footprint CP-32-3_L (QFN, 32-Leads, Body 5x5mm, Pitch 0.5mm, Thermal Pad 3.3x3.3mm, IPC High Density)
footprint CP-32-3_M (QFN, 32-Leads, Body 5x5mm, Pitch 0.5mm, Thermal Pad 3.3x3.3mm, IPC Low Density)
pins: 1 DB7 (in) "Data Bit 7", 2 DB6 (in) "Data Bit 6", 3 DVDD (power) "Digital Supply Voltage (3.3 V).", 4 DB5 (in) "Data Bit 5", 5 DB4 (in) "Data Bit 4", 6 DB3 (in) "Data Bit 3", 7 DB2 (in) "Data Bit 2", 8 DB1 (in) "Data Bit 1", 9 DB0 (in) "Least Significant Data Bit (LSB).", 10 DCOM (power) "Digital Common.", 11 CLKVDD (power) "Clock Supply Voltage (3.3 V).", 12 CLK+ (in) "Differential Clock Input.", 13 CLK- (in) "Differential Clock Input.", 14 CLKCOM (power) "Clock Common.", 15 CMODE "Clock Mode Selection. Connect to CLKCOM for single-ended clock receiver (drive CLK+ and float CLK-). Connect to CLKVDD for differential receiver. Float for PECL receiver (terminations on-chip).", 16 MODE (in) "Selects Input Data Format. Connect to DCOM for straight binary, DVDD for twos complement.", 17 AVDD (power) "Analog Supply Voltage (3.3 V).", 18 AVDD (power) "Analog Supply Voltage (3.3 V).", 19 ACOM (power) "Analog Common.", 20 IOUTB (out) "Complementary DAC Current Output. Full-scale current when all data bits are 0s.", 21 IOUTA (out) "DAC Current Output. Full-scale current when all data bits are 1s.", 22 ACOM (power) "Analog Common.", 23 REFIO (io) "Reference Input/Output. Serves as reference input when using external reference. Serves as 1.2 V reference output when using internal reference. Requires 0.1 uF capacitor to ACOM when using internal reference.", 24 FS ADJ (in) "Full-Scale Current Output Adjust.", 25 SLEEP (in) "Power-Down Control Input. Active high. Contains active pull-down circuit; it may be left unterminated if not used.", 26 DCOM (power) "Digital Common.", 27 DB13 (in) "Most Significant Data Bit (MSB).", 28 DB12 (in) "Data Bit 12", 29 DB11 (in) "Data Bit 11", 30 DB10 (in) "Data Bit 10", 31 DB9 (in) "Data Bit 9", 32 DB8 (in) "Data Bit 8", 33 EP "Exposed pad"

## AD9744AR
designator U?
Single 14-Bit TxDAC, 210 Msps, -40 to +85 degC, RW-28, Tube; Generic Part Number: AD9744; Manufacturer: Analog Devices; PartNumber: AD9744AR; # DAC Outputs: 1; Max V+: 3.6V; Op Pwr Diss: 145mW; Resolution (Bits): 14; Settling Time: 11ns; Single Supply: Yes; DatasheetVersion: Rev.B; PackageVersion: 060706-A; PackageReference: RW-28; PackageDescription: 28-Lead Standard Small Outline Package [SOIC_W]; Supplier 1: Digi-Key; Supplier Part Number 1: AD9744AR-ND; Supplier 2: Mouser; Supplier Part Number 2: 584-AD9744AR; Packing: Tube; RoHS: N; Mounting Technology: Surface Mount; Code_JEDEC: MS-013-AE; ComponentLink1Description: Manufacturer URL; ComponentLink1URL: http://www.analog.com/en/index.html; ComponentLink2Description: Datasheet; ComponentLink2URL: http://www.analog.com/static/imported-files/data_sheets/AD9744.pdf; ComponentLink3Description: Product URL; ComponentLink3URL: http://www.analog.com/en/digital-to-analog-converters/da-converters/ad9744/products/product.html
footprint RW-28_N (SOIC, 28-Leads, Body 17.9x7.5mm, Pitch 1.27mm, IPC Medium Density)
footprint RW-28_L (SOIC, 28-Leads, Body 17.9x7.5mm, Pitch 1.27mm, IPC High Density)
footprint RW-28_M (SOIC, 28-Leads, Body 17.9x7.5mm, Pitch 1.27mm, IPC Low Density)
pins: 1 DB13 (in) "Most Significant Data Bit (MSB).", 2 DB12 (in) "Data Bit 12", 3 DB11 (in) "Data Bit 11", 4 DB10 (in) "Data Bit 10", 5 DB9 (in) "Data Bit 9", 6 DB8 (in) "Data Bit 8", 7 DB7 (in) "Data Bit 7", 8 DB6 (in) "Data Bit 6", 9 DB5 (in) "Data Bit 5", 10 DB4 (in) "Data Bit 4", 11 DB3 (in) "Data Bit 3", 12 DB2 (in) "Data Bit 2", 13 DB1 (in) "Data Bit 1", 14 DB0 (in) "Least Significant Data Bit (LSB).", 15 SLEEP (in) "Power-Down Control Input. Active high. Contains active pull-down circuit; it may be left unterminated if not used.", 16 REFLO "Reference Ground when Internal 1.2 V Reference Used. Connect to ACOM for both internal and external reference operation modes.", 17 REFIO (io) "Reference Input/Output. Serves as reference input when using external reference. Serves as 1.2 V reference output when using internal reference. Requires 0.1 uF capacitor to ACOM when using internal reference.", 18 FS ADJ (in) "Full-Scale Current Output Adjust.", 19 NC "No Internal Connection.", 20 ACOM (power) "Analog Common.", 21 IOUTB (out) "Complementary DAC Current Output. Full-scale current when all data bits are 0s.", 22 IOUTA (out) "DAC Current Output. Full-scale current when all data bits are 1s.", 23 RESERVED "Reserved. Do not connect to common or supply.", 24 AVDD (power) "Analog Supply Voltage (3.3 V).", 25 MODE (in) "Selects Input Data Format. Connect to DCOM for straight binary, DVDD for twos complement.", 26 DCOM (power) "Digital Common.", 27 DVDD (power) "Digital Supply Voltage (3.3 V).", 28 CLOCK (in) "Clock Input. Data latched on positive edge of clock."

## AD9744ARU
designator U?
Single 14-Bit TxDAC, 210 Msps, -40 to +85 degC, RU-28, Tube; Generic Part Number: AD9744; Manufacturer: Analog Devices; PartNumber: AD9744ARU; # DAC Outputs: 1; Max V+: 3.6V; Op Pwr Diss: 145mW; Resolution (Bits): 14; Settling Time: 11ns; Single Supply: Yes; DatasheetVersion: Rev.B; PackageVersion: 2005; PackageReference: RU-28; PackageDescription: 28-Lead Thin Shrink Small Outline Package [TSSOP]; Supplier 1: Digi-Key; Supplier Part Number 1: AD9744ARU-ND; Supplier 2: Mouser; Supplier Part Number 2: 584-AD9744ARU; Packing: Tube; RoHS: N; Mounting Technology: Surface Mount; Code_JEDEC: MO-153-AE; ComponentLink1Description: Manufacturer URL; ComponentLink1URL: http://www.analog.com/en/index.html; ComponentLink2Description: Datasheet; ComponentLink2URL: http://www.analog.com/static/imported-files/data_sheets/AD9744.pdf; ComponentLink3Description: Package Specification; ComponentLink3URL: http://www.analog.com/static/imported-files/packages/249854663RU_28.pdf; ComponentLink4Description: Product URL; ComponentLink4URL: http://www.analog.com/en/digital-to-analog-converters/da-converters/ad9744/products/product.html
footprint RU-28_N (TSOP, 28-Leads, Body 9.7x4.4mm, Pitch 0.65mm, IPC Medium Density)
footprint RU-28_L (TSOP, 28-Leads, Body 9.7x4.4mm, Pitch 0.65mm, IPC High Density)
footprint RU-28_M (TSOP, 28-Leads, Body 9.7x4.4mm, Pitch 0.65mm, IPC Low Density)
pins: 1 DB13 (in) "Most Significant Data Bit (MSB).", 2 DB12 (in) "Data Bit 12", 3 DB11 (in) "Data Bit 11", 4 DB10 (in) "Data Bit 10", 5 DB9 (in) "Data Bit 9", 6 DB8 (in) "Data Bit 8", 7 DB7 (in) "Data Bit 7", 8 DB6 (in) "Data Bit 6", 9 DB5 (in) "Data Bit 5", 10 DB4 (in) "Data Bit 4", 11 DB3 (in) "Data Bit 3", 12 DB2 (in) "Data Bit 2", 13 DB1 (in) "Data Bit 1", 14 DB0 (in) "Least Significant Data Bit (LSB).", 15 SLEEP (in) "Power-Down Control Input. Active high. Contains active pull-down circuit; it may be left unterminated if not used.", 16 REFLO "Reference Ground when Internal 1.2 V Reference Used. Connect to ACOM for both internal and external reference operation modes.", 17 REFIO (io) "Reference Input/Output. Serves as reference input when using external reference. Serves as 1.2 V reference output when using internal reference. Requires 0.1 uF capacitor to ACOM when using internal reference.", 18 FSADJ (in) "Full-Scale Current Output Adjust.", 19 NC "No Internal Connection.", 20 ACOM (power) "Analog Common.", 21 IOUTB (out) "Complementary DAC Current Output. Full-scale current when all data bits are 0s.", 22 IOUTA (out) "DAC Current Output. Full-scale current when all data bits are 1s.", 23 RESERVED "Reserved. Do not connect to common or supply.", 24 AVDD (power) "Analog Supply Voltage (3.3 V).", 25 MODE (in) "Selects Input Data Format. Connect to DCOM for straight binary, DVDD for twos complement.", 26 DCOM (power) "Digital Common.", 27 DVDD (power) "Digital Supply Voltage (3.3 V).", 28 CLOCK (in) "Clock Input. Data latched on positive edge of clock."

## AD9744ARURL7
designator U?
Single 14-Bit TxDAC, 210 Msps, -40 to +85 degC, RU-28, Reel; Generic Part Number: AD9744; Manufacturer: Analog Devices; PartNumber: AD9744ARURL7; # DAC Outputs: 1; Max V+: 3.6V; Op Pwr Diss: 145mW; Resolution (Bits): 14; Settling Time: 11ns; Single Supply: Yes; DatasheetVersion: Rev.B; PackageVersion: 2005; PackageReference: RU-28; PackageDescription: 28-Lead Thin Shrink Small Outline Package [TSSOP]; Supplier 1: Digi-Key; Supplier Part Number 1: AD9744ARURL7-ND; Supplier 2: Mouser; Supplier Part Number 2: 584-AD9744ARUR7; Packing: Reel; RoHS: N; Mounting Technology: Surface Mount; Code_JEDEC: MO-153-AE; ComponentLink1Description: Manufacturer URL; ComponentLink1URL: http://www.analog.com/en/index.html; ComponentLink2Description: Datasheet; ComponentLink2URL: http://www.analog.com/static/imported-files/data_sheets/AD9744.pdf; ComponentLink3Description: Package Specification; ComponentLink3URL: http://www.analog.com/static/imported-files/packages/249854663RU_28.pdf; ComponentLink4Description: Product URL; ComponentLink4URL: http://www.analog.com/en/digital-to-analog-converters/da-converters/ad9744/products/product.html
footprint RU-28_N (TSOP, 28-Leads, Body 9.7x4.4mm, Pitch 0.65mm, IPC Medium Density)
footprint RU-28_L (TSOP, 28-Leads, Body 9.7x4.4mm, Pitch 0.65mm, IPC High Density)
footprint RU-28_M (TSOP, 28-Leads, Body 9.7x4.4mm, Pitch 0.65mm, IPC Low Density)
pins: 1 DB13 (in) "Most Significant Data Bit (MSB).", 2 DB12 (in) "Data Bit 12", 3 DB11 (in) "Data Bit 11", 4 DB10 (in) "Data Bit 10", 5 DB9 (in) "Data Bit 9", 6 DB8 (in) "Data Bit 8", 7 DB7 (in) "Data Bit 7", 8 DB6 (in) "Data Bit 6", 9 DB5 (in) "Data Bit 5", 10 DB4 (in) "Data Bit 4", 11 DB3 (in) "Data Bit 3", 12 DB2 (in) "Data Bit 2", 13 DB1 (in) "Data Bit 1", 14 DB0 (in) "Least Significant Data Bit (LSB).", 15 SLEEP (in) "Power-Down Control Input. Active high. Contains active pull-down circuit; it may be left unterminated if not used.", 16 REFLO "Reference Ground when Internal 1.2 V Reference Used. Connect to ACOM for both internal and external reference operation modes.", 17 REFIO (io) "Reference Input/Output. Serves as reference input when using external reference. Serves as 1.2 V reference output when using internal reference. Requires 0.1 uF capacitor to ACOM when using internal reference.", 18 FSADJ (in) "Full-Scale Current Output Adjust.", 19 NC "No Internal Connection.", 20 ACOM (power) "Analog Common.", 21 IOUTB (out) "Complementary DAC Current Output. Full-scale current when all data bits are 0s.", 22 IOUTA (out) "DAC Current Output. Full-scale current when all data bits are 1s.", 23 RESERVED "Reserved. Do not connect to common or supply.", 24 AVDD (power) "Analog Supply Voltage (3.3 V).", 25 MODE (in) "Selects Input Data Format. Connect to DCOM for straight binary, DVDD for twos complement.", 26 DCOM (power) "Digital Common.", 27 DVDD (power) "Digital Supply Voltage (3.3 V).", 28 CLOCK (in) "Clock Input. Data latched on positive edge of clock."